# Altium schematic symbol library LM.SchLib: 80 symbols
Pins are listed as number, name and electrical type; pins without a type are passive.

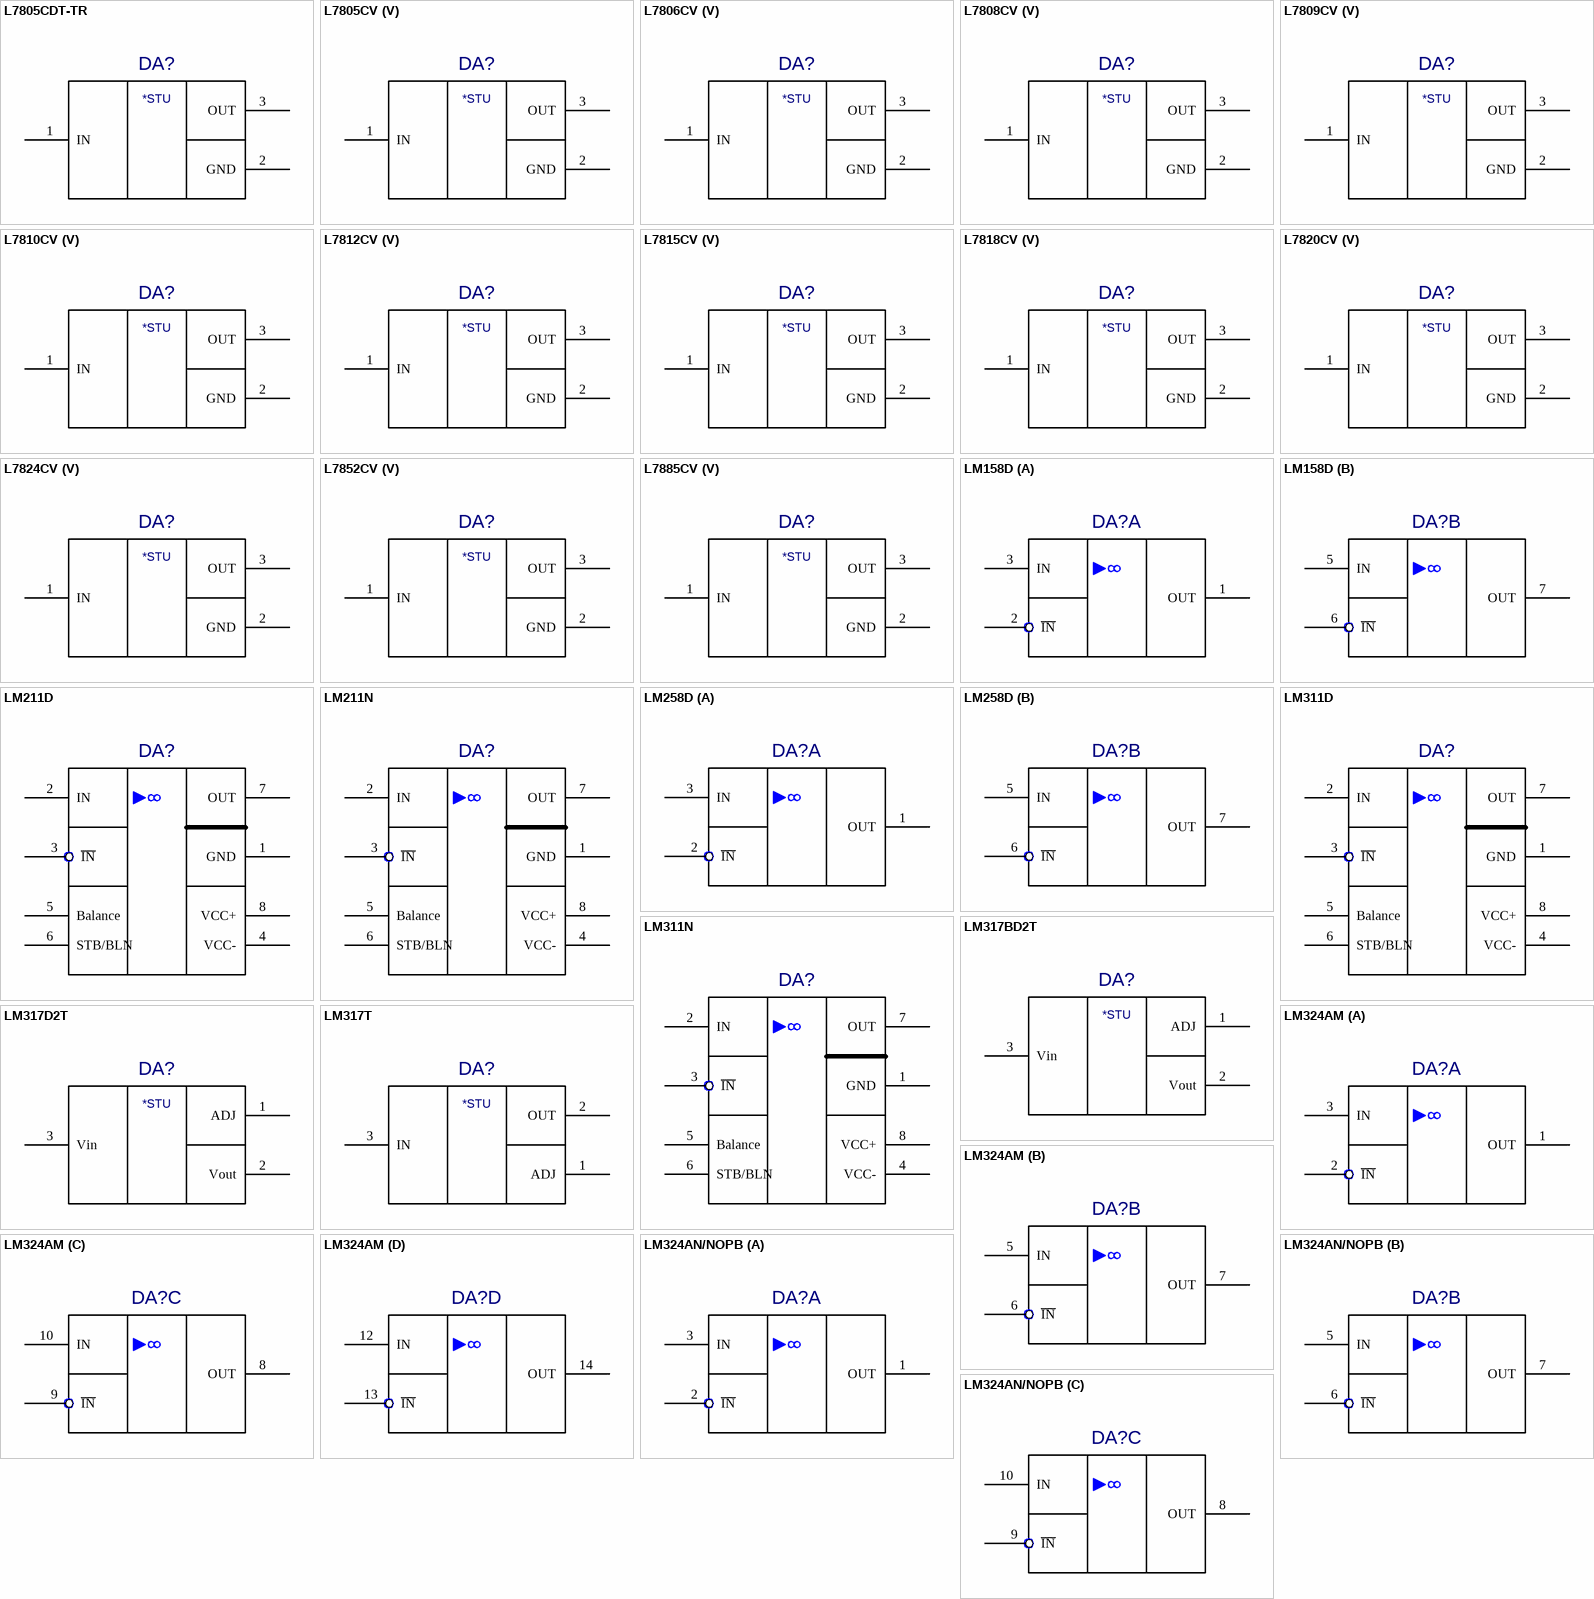
[diagram p0: symbols L7805CDT-TR to LM324AN/NOPB]

## L7805CDT-TR
designator DA?  (value not drawn)
Value: *
footprint DPAK
pins: 1 IN, 2 GND, 3 OUT
text: *STU

## L7805CV (V)
designator DA?  (value not drawn)
Value: *
footprint TO-220 (V)
pins: 1 IN, 2 GND, 3 OUT
text: *STU

## L7806CV (V)
designator DA?  (value not drawn)
Value: *
footprint TO-220 (V)
pins: 1 IN, 2 GND, 3 OUT
text: *STU

## L7808CV (V)
designator DA?  (value not drawn)
Value: *
footprint TO-220 (V)
pins: 1 IN, 2 GND, 3 OUT
text: *STU

## L7809CV (V)
designator DA?  (value not drawn)
Value: *
footprint TO-220 (V)
pins: 1 IN, 2 GND, 3 OUT
text: *STU

## L7810CV (V)
designator DA?  (value not drawn)
Value: *
footprint TO-220 (V)
pins: 1 IN, 2 GND, 3 OUT
text: *STU

## L7812CV (V)
designator DA?  (value not drawn)
Value: *
footprint TO-220 (V)
pins: 1 IN, 2 GND, 3 OUT
text: *STU

## L7815CV (V)
designator DA?  (value not drawn)
Value: *
footprint TO-220 (V)
pins: 1 IN, 2 GND, 3 OUT
text: *STU

## L7818CV (V)
designator DA?  (value not drawn)
Value: *
footprint TO-220 (V)
pins: 1 IN, 2 GND, 3 OUT
text: *STU

## L7820CV (V)
designator DA?  (value not drawn)
Value: *
footprint TO-220 (V)
pins: 1 IN, 2 GND, 3 OUT
text: *STU

## L7824CV (V)
designator DA?  (value not drawn)
Value: *
footprint TO-220 (V)
pins: 1 IN, 2 GND, 3 OUT
text: *STU

## L7852CV (V)
designator DA?  (value not drawn)
Value: *
footprint TO-220 (V)
pins: 1 IN, 2 GND, 3 OUT
text: *STU

## L7885CV (V)
designator DA?  (value not drawn)
Value: *
footprint TO-220 (V)
pins: 1 IN, 2 GND, 3 OUT
text: *STU

## LM158D
designator DA?  (value not drawn)
Value: *
footprint SO-8
pins on every part: 4 GND (power) hidden, 8 VCC (power) hidden
part A pins: 1 OUT, 2 ~{IN}, 3 IN
part B pins: 5 IN, 6 ~{IN}, 7 OUT

## LM211D
designator DA?  (value not drawn)
Value: *
footprint SO-8
pins: 1 GND, 2 IN, 3 ~{IN}, 4 VCC-, 5 Balance, 6 STB/BLN, 7 OUT, 8 VCC+

## LM211N
designator DA?  (value not drawn)
Value: *
footprint DIP-8(2002_7P62X2P54))
pins: 1 GND, 2 IN, 3 ~{IN}, 4 VCC-, 5 Balance, 6 STB/BLN, 7 OUT, 8 VCC+

## LM258D
designator DA?  (value not drawn)
Value: *
footprint SO-8
pins on every part: 4 GND (power) hidden, 8 VCC (power) hidden
part A pins: 1 OUT, 2 ~{IN}, 3 IN
part B pins: 5 IN, 6 ~{IN}, 7 OUT

## LM311D
designator DA?  (value not drawn)
Value: *
footprint SO-8
pins: 1 GND, 2 IN, 3 ~{IN}, 4 VCC-, 5 Balance, 6 STB/BLN, 7 OUT, 8 VCC+

## LM311N
designator DA?  (value not drawn)
Value: *
footprint DIP-8(2002_7P62X2P54))
pins: 1 GND, 2 IN, 3 ~{IN}, 4 VCC-, 5 Balance, 6 STB/BLN, 7 OUT, 8 VCC+

## LM317BD2T
designator DA?  (value not drawn)
Value: *
footprint D2PAK
pins: 1 ADJ, 2 Vout, 3 Vin
text: *STU

## LM317D2T
designator DA?  (value not drawn)
Value: *
footprint D2PAK
pins: 1 ADJ, 2 Vout, 3 Vin
text: *STU

## LM317T
designator DA?  (value not drawn)
Value: *
footprint TO-220 WITH TAB
pins: 1 ADJ, 2 OUT, 3 IN, 4 hidden
text: *STU

## LM324AM
designator DA?  (value not drawn)
Value: *
footprint SO-14
pins on every part: 4 VCC (power) hidden, 11 GND (power) hidden
part A pins: 1 OUT, 2 ~{IN}, 3 IN
part B pins: 5 IN, 6 ~{IN}, 7 OUT
part C pins: 8 OUT, 9 ~{IN}, 10 IN
part D pins: 12 IN, 13 ~{IN}, 14 OUT

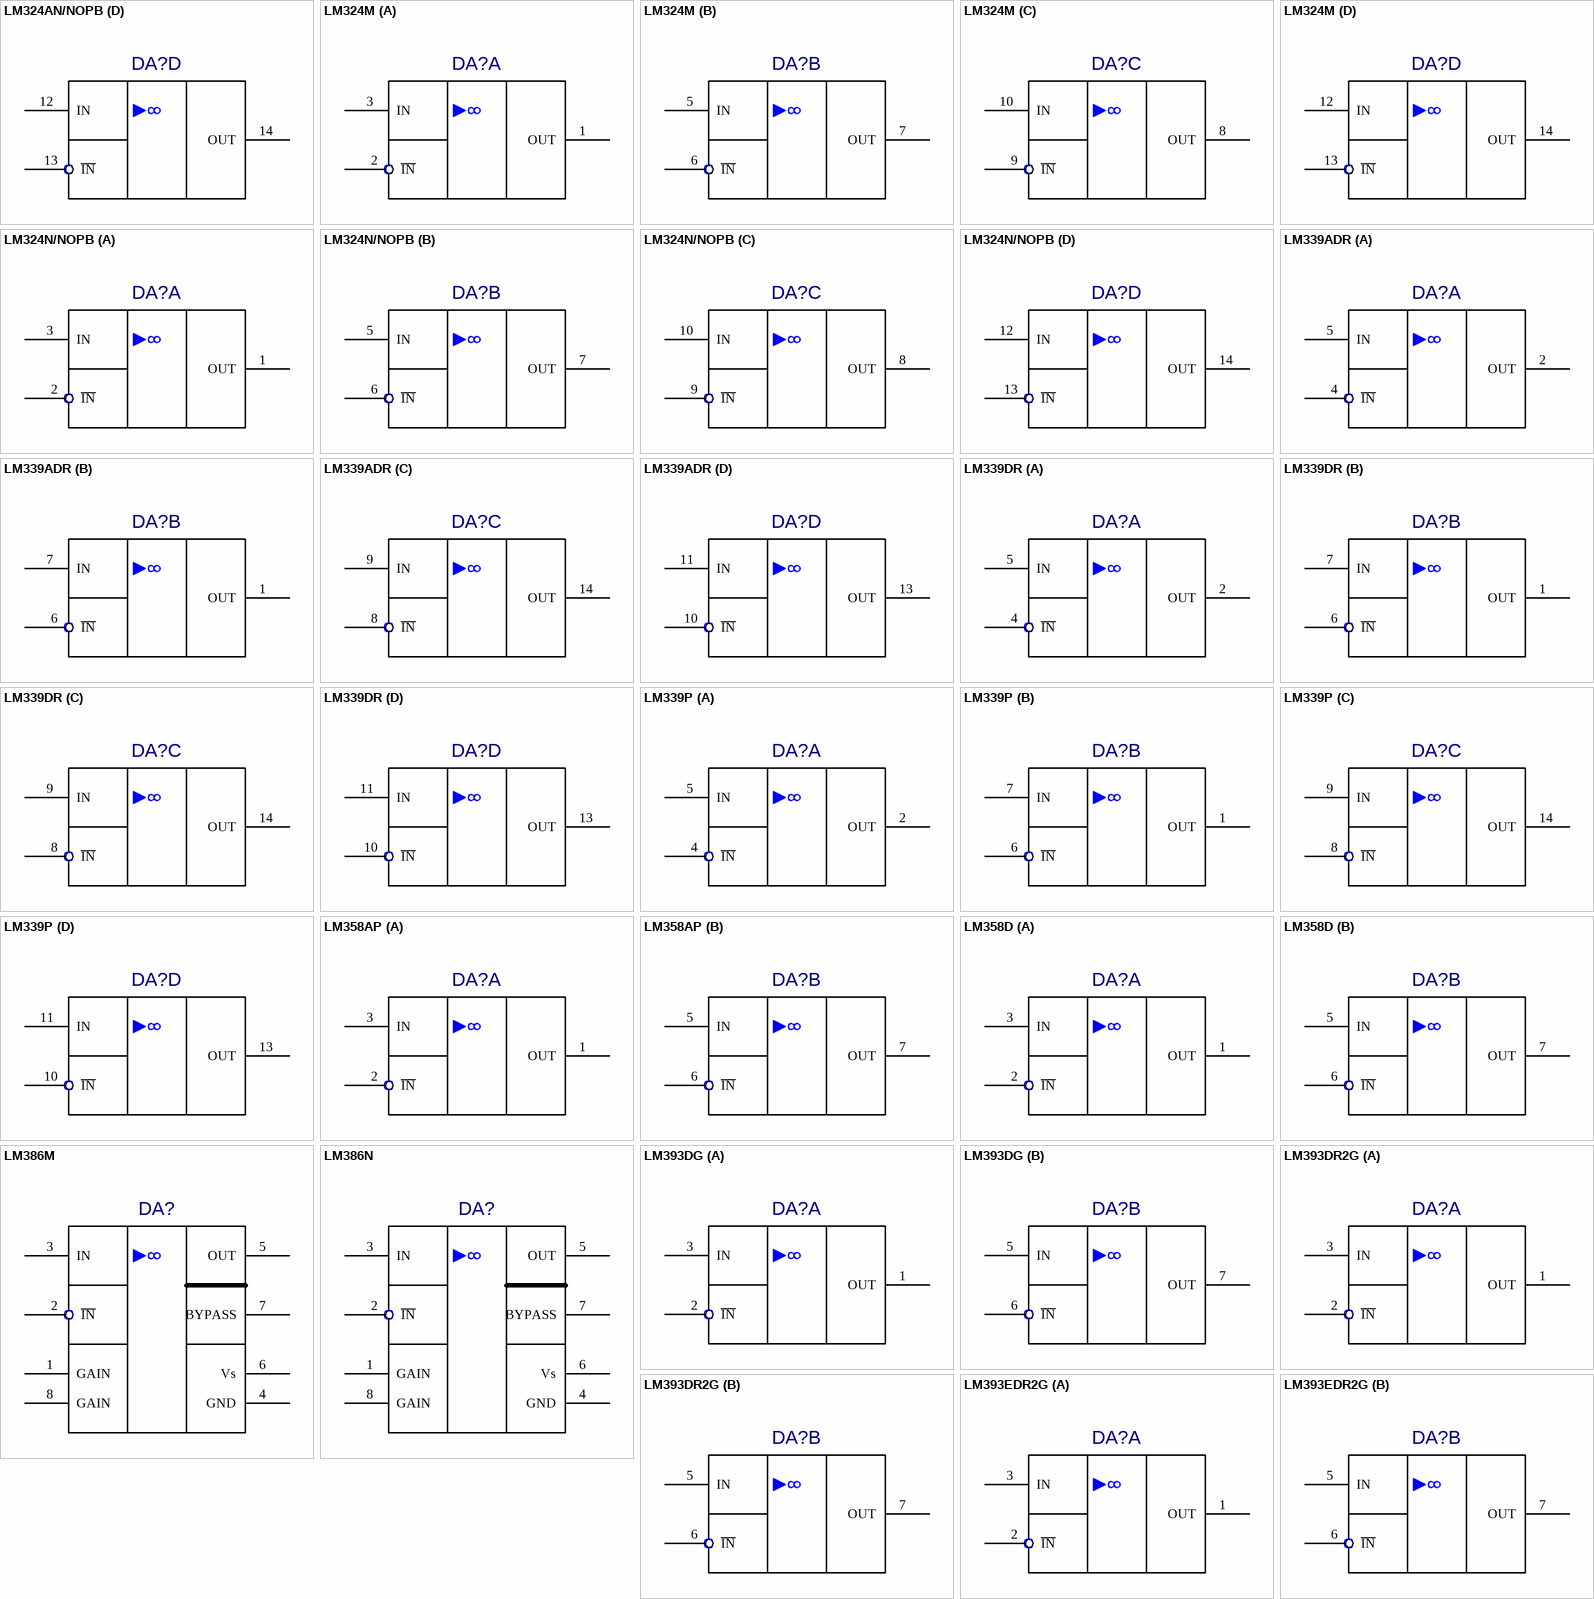
[diagram p1: symbols LM324AN/NOPB to LM393EDR2G]

## LM324AN/NOPB
designator DA?  (value not drawn)
Value: *
footprint DIP-14
pins on every part: 4 VCC (power) hidden, 11 GND (power) hidden
part A pins: 1 OUT, 2 ~{IN}, 3 IN
part B pins: 5 IN, 6 ~{IN}, 7 OUT
part C pins: 8 OUT, 9 ~{IN}, 10 IN
part D pins: 12 IN, 13 ~{IN}, 14 OUT

## LM324M
designator DA?  (value not drawn)
Value: *
footprint SO-14
pins on every part: 4 VCC (power) hidden, 11 GND (power) hidden
part A pins: 1 OUT, 2 ~{IN}, 3 IN
part B pins: 5 IN, 6 ~{IN}, 7 OUT
part C pins: 8 OUT, 9 ~{IN}, 10 IN
part D pins: 12 IN, 13 ~{IN}, 14 OUT

## LM324N/NOPB
designator DA?  (value not drawn)
Value: *
footprint DIP-14
pins on every part: 4 VCC (power) hidden, 11 GND (power) hidden
part A pins: 1 OUT, 2 ~{IN}, 3 IN
part B pins: 5 IN, 6 ~{IN}, 7 OUT
part C pins: 8 OUT, 9 ~{IN}, 10 IN
part D pins: 12 IN, 13 ~{IN}, 14 OUT

## LM339ADR
designator DA?  (value not drawn)
Value: *
footprint SO-14
pins on every part: 3 VCC (power) hidden, 12 GND (power) hidden
part A pins: 2 OUT, 4 ~{IN}, 5 IN
part B pins: 1 OUT, 6 ~{IN}, 7 IN
part C pins: 8 ~{IN}, 9 IN, 14 OUT
part D pins: 10 ~{IN}, 11 IN, 13 OUT

## LM339DR
designator DA?  (value not drawn)
Value: *
footprint SO-14
pins on every part: 3 VCC (power) hidden, 12 GND (power) hidden
part A pins: 2 OUT, 4 ~{IN}, 5 IN
part B pins: 1 OUT, 6 ~{IN}, 7 IN
part C pins: 8 ~{IN}, 9 IN, 14 OUT
part D pins: 10 ~{IN}, 11 IN, 13 OUT

## LM339P
designator DA?  (value not drawn)
Value: *
footprint TSSOP-14 (RU-14)
pins on every part: 3 VCC (power) hidden, 12 GND (power) hidden
part A pins: 2 OUT, 4 ~{IN}, 5 IN
part B pins: 1 OUT, 6 ~{IN}, 7 IN
part C pins: 8 ~{IN}, 9 IN, 14 OUT
part D pins: 10 ~{IN}, 11 IN, 13 OUT

## LM358AP
designator DA?  (value not drawn)
Value: *
footprint DIP-8(2002_7P62X2P54))
pins on every part: 4 GND (power) hidden, 8 VCC (power) hidden
part A pins: 1 OUT, 2 ~{IN}, 3 IN
part B pins: 5 IN, 6 ~{IN}, 7 OUT

## LM358D
designator DA?  (value not drawn)
Value: *
footprint SO-8
pins on every part: 4 GND (power) hidden, 8 VCC (power) hidden
part A pins: 1 OUT, 2 ~{IN}, 3 IN
part B pins: 5 IN, 6 ~{IN}, 7 OUT

## LM386M
designator DA?  (value not drawn)
Value: *
footprint SO-8
pins: 1 GAIN, 2 ~{IN}, 3 IN, 4 GND, 5 OUT, 6 Vs, 7 BYPASS, 8 GAIN

## LM386N
designator DA?  (value not drawn)
Value: *
footprint DIP-8(2002_7P62X2P54))
pins: 1 GAIN, 2 ~{IN}, 3 IN, 4 GND, 5 OUT, 6 Vs, 7 BYPASS, 8 GAIN

## LM393DG
designator DA?  (value not drawn)
Value: *
footprint SO-8
pins on every part: 4 GND (power) hidden, 8 VCC (power) hidden
part A pins: 1 OUT, 2 ~{IN}, 3 IN
part B pins: 5 IN, 6 ~{IN}, 7 OUT

## LM393DR2G
designator DA?  (value not drawn)
Value: *
footprint SO-8
pins on every part: 4 GND (power) hidden, 8 VCC (power) hidden
part A pins: 1 OUT, 2 ~{IN}, 3 IN
part B pins: 5 IN, 6 ~{IN}, 7 OUT

## LM393EDR2G
designator DA?  (value not drawn)
Value: *
footprint SO-8
pins on every part: 4 GND (power) hidden, 8 VCC (power) hidden
part A pins: 1 OUT, 2 ~{IN}, 3 IN
part B pins: 5 IN, 6 ~{IN}, 7 OUT

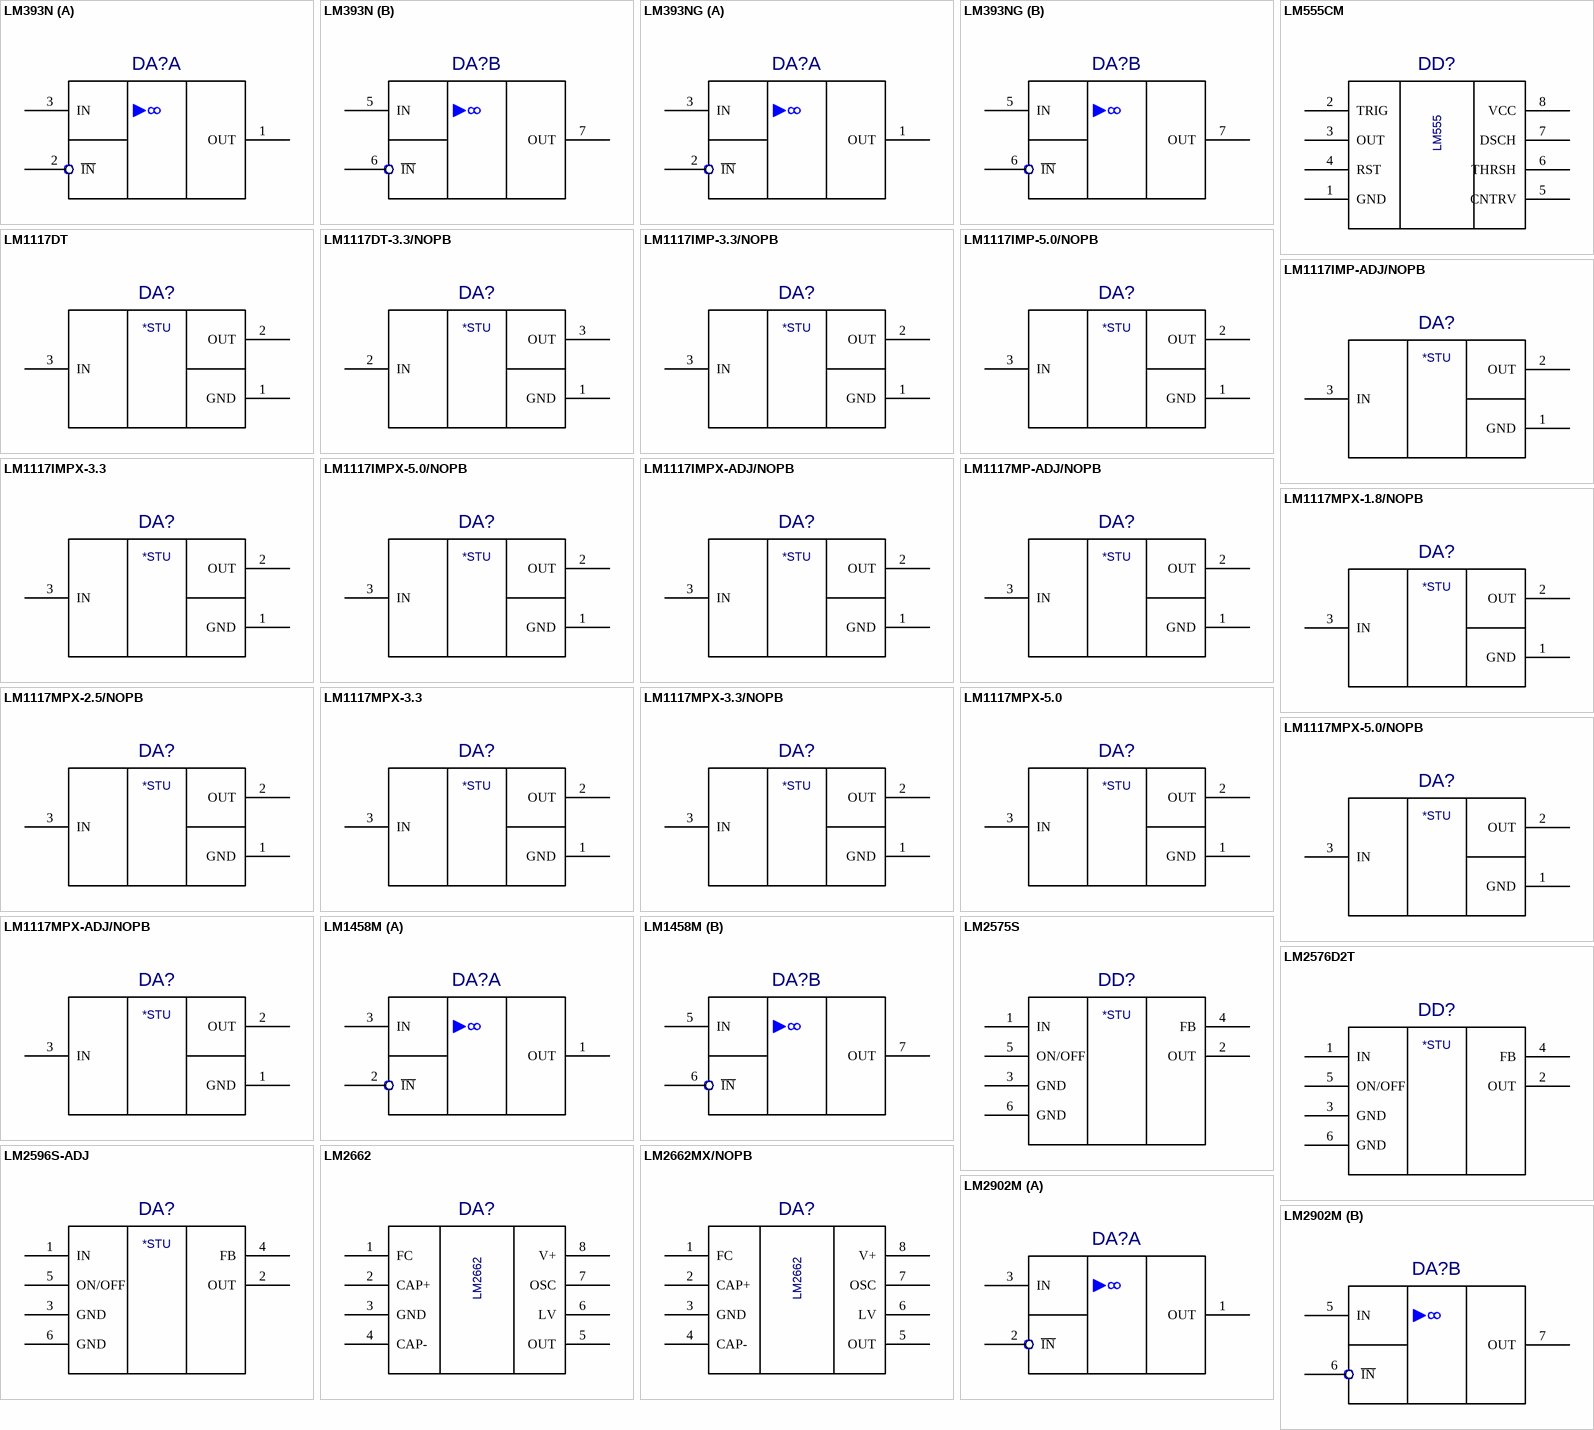
[diagram p2: symbols LM393N to LM2902M]

## LM393N
designator DA?  (value not drawn)
Value: *
footprint DIP-8(2002_7P62X2P54))
pins on every part: 4 GND (power) hidden, 8 VCC (power) hidden
part A pins: 1 OUT, 2 ~{IN}, 3 IN
part B pins: 5 IN, 6 ~{IN}, 7 OUT

## LM393NG
designator DA?  (value not drawn)
Value: *
footprint DIP-8(2002_7P62X2P54))
pins on every part: 4 GND (power) hidden, 8 VCC (power) hidden
part A pins: 1 OUT, 2 ~{IN}, 3 IN
part B pins: 5 IN, 6 ~{IN}, 7 OUT

## LM555CM
designator DD?  (value not drawn)
Value: *
footprint SO-8
pins: 1 GND, 2 TRIG, 3 OUT, 4 RST, 5 CNTRV, 6 THRSH, 7 DSCH, 8 VCC
text: LM555

## LM1117DT
designator DA?  (value not drawn)
Value: *
footprint TO-220 WITH TAB
pins: 1 GND, 2 OUT, 3 IN, 4 hidden
text: *STU

## LM1117DT-3.3/NOPB
designator DA?  (value not drawn)
Value: *
footprint TO-252AA
pins: 1 GND, 2 IN, 3 OUT
text: *STU

## LM1117IMP-3.3/NOPB
designator DA?  (value not drawn)
Value: *
footprint SOT-223
pins: 1 GND, 2 OUT, 3 IN, 4 hidden
text: *STU

## LM1117IMP-5.0/NOPB
designator DA?  (value not drawn)
Value: *
footprint SOT-223
pins: 1 GND, 2 OUT, 3 IN, 4 hidden
text: *STU

## LM1117IMP-ADJ/NOPB
designator DA?  (value not drawn)
Value: *
footprint SOT-223
pins: 1 GND, 2 OUT, 3 IN, 4 hidden
text: *STU

## LM1117IMPX-3.3
designator DA?  (value not drawn)
Value: *
footprint SOT-223
pins: 1 GND, 2 OUT, 3 IN, 4 hidden
text: *STU

## LM1117IMPX-5.0/NOPB
designator DA?  (value not drawn)
Value: *
footprint SOT-223
pins: 1 GND, 2 OUT, 3 IN, 4 hidden
text: *STU

## LM1117IMPX-ADJ/NOPB
designator DA?  (value not drawn)
Value: *
footprint SOT-223
pins: 1 GND, 2 OUT, 3 IN, 4 hidden
text: *STU

## LM1117MP-ADJ/NOPB
designator DA?  (value not drawn)
Value: *
footprint SOT-223
pins: 1 GND, 2 OUT, 3 IN, 4 hidden
text: *STU

## LM1117MPX-1.8/NOPB
designator DA?  (value not drawn)
Value: *
footprint SOT-223
pins: 1 GND, 2 OUT, 3 IN, 4 hidden
text: *STU

## LM1117MPX-2.5/NOPB
designator DA?  (value not drawn)
Value: *
footprint SOT-223
pins: 1 GND, 2 OUT, 3 IN, 4 hidden
text: *STU

## LM1117MPX-3.3
designator DA?  (value not drawn)
Value: *
footprint SOT-223
pins: 1 GND, 2 OUT, 3 IN, 4 hidden
text: *STU

## LM1117MPX-3.3/NOPB
designator DA?  (value not drawn)
Value: *
footprint SOT-223
pins: 1 GND, 2 OUT, 3 IN, 4 hidden
text: *STU

## LM1117MPX-5.0
designator DA?  (value not drawn)
Value: *
footprint SOT-223
pins: 1 GND, 2 OUT, 3 IN, 4 hidden
text: *STU

## LM1117MPX-5.0/NOPB
designator DA?  (value not drawn)
Value: *
footprint SOT-223
pins: 1 GND, 2 OUT, 3 IN, 4 hidden
text: *STU

## LM1117MPX-ADJ/NOPB
designator DA?  (value not drawn)
Value: *
footprint SOT-223
pins: 1 GND, 2 OUT, 3 IN, 4 hidden
text: *STU

## LM1458M
designator DA?  (value not drawn)
Value: *
footprint SO-8
pins on every part: 4 GND (power) hidden, 8 VCC (power) hidden
part A pins: 1 OUT, 2 ~{IN}, 3 IN
part B pins: 5 IN, 6 ~{IN}, 7 OUT

## LM2575S
designator DD?  (value not drawn)
Value: *
footprint TO-263
pins: 1 IN, 2 OUT, 3 GND, 4 FB, 5 ON/OFF, 6 GND
text: *STU

## LM2576D2T
designator DD?  (value not drawn)
Value: *
footprint D2PAK-5PIN
pins: 1 IN, 2 OUT, 3 GND, 4 FB, 5 ON/OFF, 6 GND
text: *STU

## LM2596S-ADJ
designator DA?  (value not drawn)
Value: *
footprint TO-263
pins: 1 IN, 2 OUT, 3 GND, 4 FB, 5 ON/OFF, 6 GND
text: *STU

## LM2662
designator DA?  (value not drawn)
Value: *
footprint SO-8
pins: 1 FC, 2 CAP+, 3 GND, 4 CAP-, 5 OUT, 6 LV, 7 OSC, 8 V+

## LM2662MX/NOPB
designator DA?  (value not drawn)
Value: *
footprint SO-8
pins: 1 FC, 2 CAP+, 3 GND, 4 CAP-, 5 OUT, 6 LV, 7 OSC, 8 V+
text: LM2662

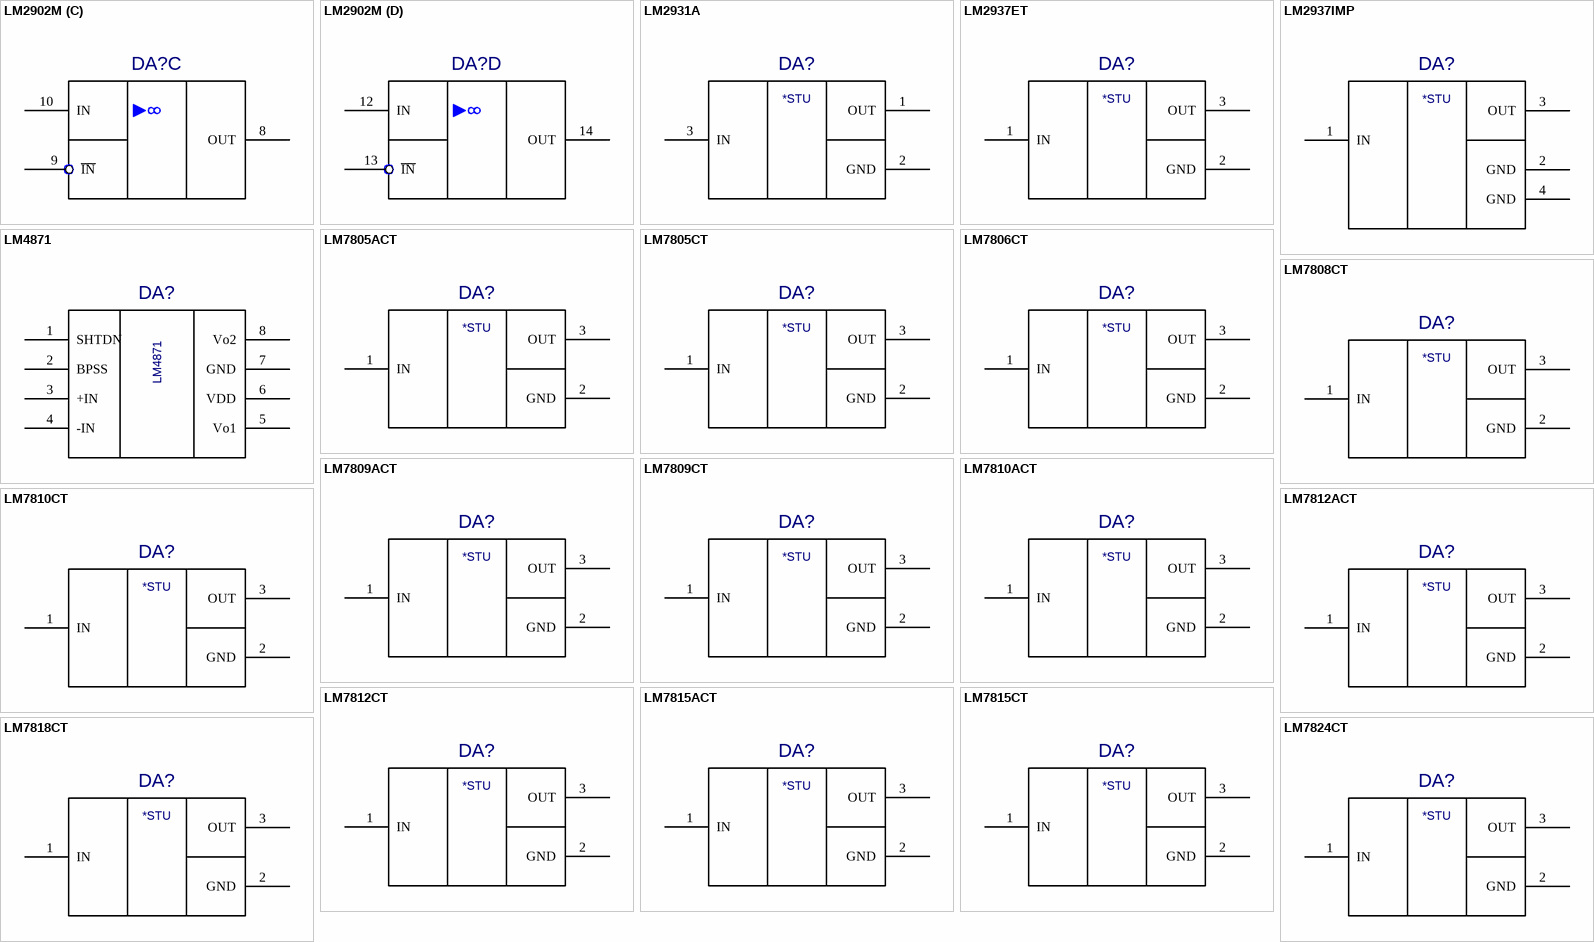
[diagram p3: symbols LM2902M to LM7824CT]

## LM2902M
designator DA?  (value not drawn)
Value: *
footprint SO-14
pins on every part: 4 VCC (power) hidden, 11 GND (power) hidden
part A pins: 1 OUT, 2 ~{IN}, 3 IN
part B pins: 5 IN, 6 ~{IN}, 7 OUT
part C pins: 8 OUT, 9 ~{IN}, 10 IN
part D pins: 12 IN, 13 ~{IN}, 14 OUT

## LM2931A
designator DA?  (value not drawn)
Value: *
footprint KT26 (TO-92)_LM2931A(Primary)
pins: 1 OUT, 2 GND, 3 IN
text: *STU

## LM2937ET
designator DA?  (value not drawn)
Value: *
footprint TO-220 WITH TAB
pins: 1 IN, 2 GND, 3 OUT, 4 hidden
text: *STU

## LM2937IMP
designator DA?  (value not drawn)
Value: *
footprint SOT-223
pins: 1 IN, 2 GND, 3 OUT, 4 GND
text: *STU

## LM4871
designator DA?  (value not drawn)
Value: *
footprint SO-8
pins: 1 SHTDN, 2 BPSS, 3 +IN, 4 -IN, 5 Vo1, 6 VDD, 7 GND, 8 Vo2

## LM7805ACT
designator DA?  (value not drawn)
Value: *
footprint TO-220AB_Primary
footprint TO-220AB_SMD
footprint TO-220AB_Vert
pins: 1 IN, 2 GND, 3 OUT
text: *STU

## LM7805CT
designator DA?  (value not drawn)
Value: *
footprint TO-220AB_Primary
footprint TO-220AB_SMD
footprint TO-220AB_Vert
pins: 1 IN, 2 GND, 3 OUT
text: *STU

## LM7806CT
designator DA?  (value not drawn)
Value: *
footprint TO-220AB_Primary
footprint TO-220AB_SMD
footprint TO-220AB_Vert
pins: 1 IN, 2 GND, 3 OUT
text: *STU

## LM7808CT
designator DA?  (value not drawn)
Value: *
footprint TO-220AB_Primary
footprint TO-220AB_SMD
footprint TO-220AB_Vert
pins: 1 IN, 2 GND, 3 OUT
text: *STU

## LM7809ACT
designator DA?  (value not drawn)
Value: *
footprint TO-220AB_Primary
footprint TO-220AB_SMD
footprint TO-220AB_Vert
pins: 1 IN, 2 GND, 3 OUT
text: *STU

## LM7809CT
designator DA?  (value not drawn)
Value: *
footprint TO-220AB_Primary
footprint TO-220AB_SMD
footprint TO-220AB_Vert
pins: 1 IN, 2 GND, 3 OUT
text: *STU

## LM7810ACT
designator DA?  (value not drawn)
Value: *
footprint TO-220AB_Primary
footprint TO-220AB_SMD
footprint TO-220AB_Vert
pins: 1 IN, 2 GND, 3 OUT
text: *STU

## LM7810CT
designator DA?  (value not drawn)
Value: *
footprint TO-220AB_Primary
footprint TO-220AB_SMD
footprint TO-220AB_Vert
pins: 1 IN, 2 GND, 3 OUT
text: *STU

## LM7812ACT
designator DA?  (value not drawn)
Value: *
footprint TO-220AB_Primary
footprint TO-220AB_SMD
footprint TO-220AB_Vert
pins: 1 IN, 2 GND, 3 OUT
text: *STU

## LM7812CT
designator DA?  (value not drawn)
Value: *
footprint TO-220AB_Primary
footprint TO-220AB_SMD
footprint TO-220AB_Vert
pins: 1 IN, 2 GND, 3 OUT
text: *STU

## LM7815ACT
designator DA?  (value not drawn)
Value: *
footprint TO-220AB_Primary
footprint TO-220AB_SMD
footprint TO-220AB_Vert
pins: 1 IN, 2 GND, 3 OUT
text: *STU

## LM7815CT
designator DA?  (value not drawn)
Value: *
footprint TO-220AB_Primary
footprint TO-220AB_SMD
footprint TO-220AB_Vert
pins: 1 IN, 2 GND, 3 OUT
text: *STU

## LM7818CT
designator DA?  (value not drawn)
Value: *
footprint TO-220AB_Primary
footprint TO-220AB_SMD
footprint TO-220AB_Vert
pins: 1 IN, 2 GND, 3 OUT
text: *STU

## LM7824CT
designator DA?  (value not drawn)
Value: *
footprint TO-220AB_Primary
footprint TO-220AB_SMD
footprint TO-220AB_Vert
pins: 1 IN, 2 GND, 3 OUT
text: *STU